# Altium schematic symbol library Modules.SchLib: 11 symbols
Pins are listed as number, name and electrical type; pins without a type are passive.

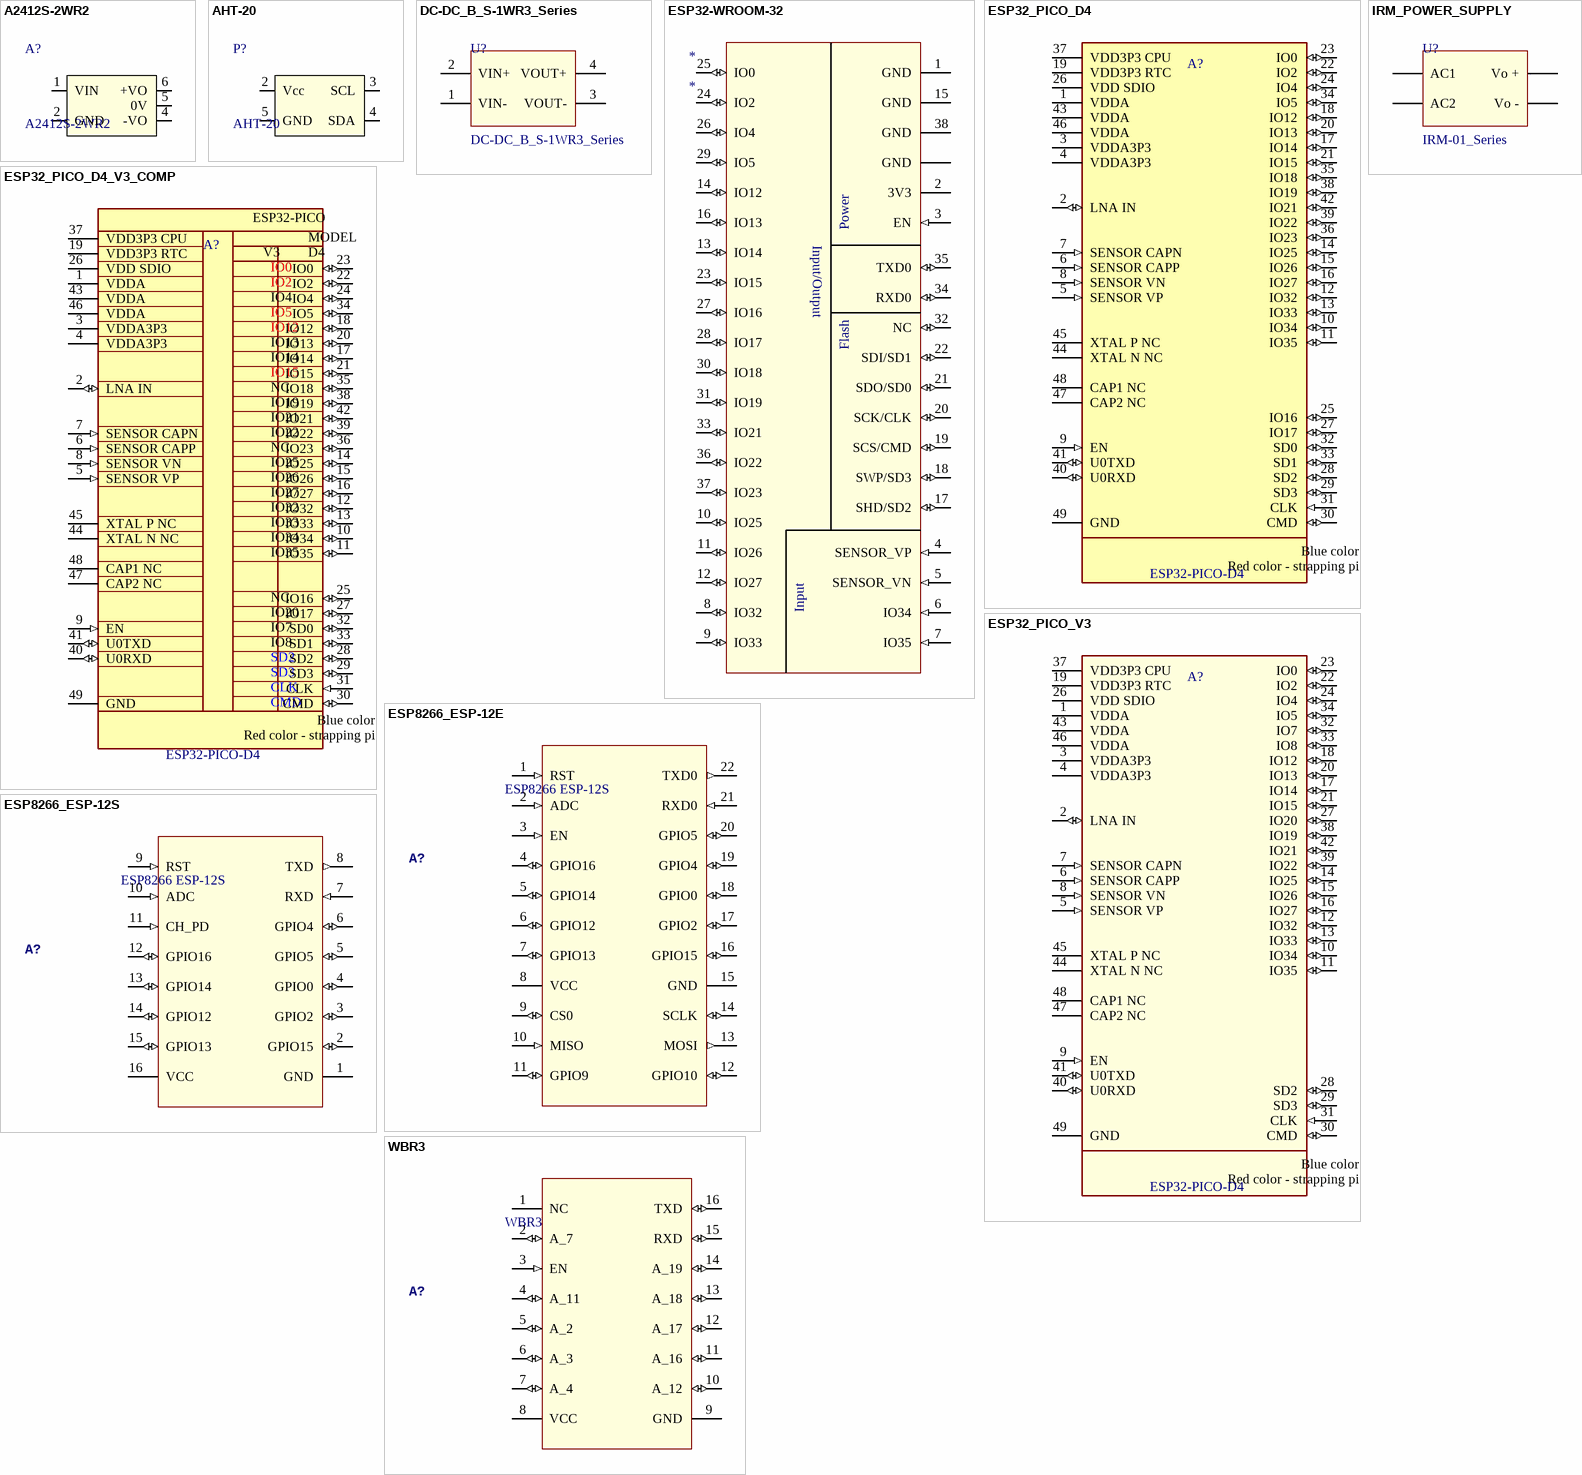
[diagram p0: symbols A2412S-2WR2 to WBR3]

## A2412S-2WR2
designator A?
Izolated DCDC; Supplier: BIG
footprint IZODCDC +/-
pins: 1 VIN, 2 GND, 4 -VO, 5 0V, 6 +VO

## AHT-20
designator P?
Temperature and humidity sensor; Supplier: BIG
footprint AHT-20
pins: 2 Vcc, 3 SCL, 4 SDA, 5 GND

## DC-DC_B_S-1WR3_Series
designator U?
MODULE, DC-DC, 1W
footprint IRM-01 Series (AC\DC Converter IRM-01 series MeanWell)
pins: 1 VIN-, 2 VIN+, 3 VOUT-, 4 VOUT+

## ESP32-WROOM-32
designator *
pins: 1 GND (power), 2 3V3 (power), 3 EN (in), 4 SENSOR_VP (in) "GPIO36, ADC1_CH0, RTC_GPIO0", 5 SENSOR_VN (in) "GPIO39, ADC1_CH3, RTC_GPIO3", 6 IO34 (in) "GPIO34, ADC1_CH6, RTC_GPIO4", 7 IO35 (in) "GPIO35, ADC1_CH7, RTC_GPIO", 8 IO32 (io) "GPIO32, XTAL_32K_P, ADC1_CH4, TOUCH9, RTC_GPIO9", 9 IO33 (io) "GPIO33, XTAL_32K_N, ADC1_CH5, TOUCH8, RTC_GPIO8", 10 IO25 (io) "GPIO25, DAC_1, ADC2_CH8, RTC_GPIO6, EMAC_RXD0", 11 IO26 (io) "GPIO26, DAC_2, ADC2_CH9, RTC_GPIO7, EMAC_RXD1", 12 IO27 (io) "GPIO27, ADC2_CH7, TOUCH7, RTC_GPIO17, EMAC_RX_DV", 13 IO14 (io) "GPIO14, ADC2_CH6, TOUCH6, RTC_GPIO16, MTMS, HSPICLK, HS2_CLK, SD_CLK, EMAC_TXD2", 14 IO12 (io) "GPIO12, ADC2_CH5, TOUCH5, RTC_GPIO15, MTDI, HSPIQ, HS2_DATA2, SD_DATA2, EMAC_TXD3", 15 GND (power), 16 IO13 (io) "GPIO13, ADC2_CH4, TOUCH4, RTC_GPIO14, MTCK, HSPID, HS2_DATA3, SD_DATA3, EMAC_RX_ER", 17 SHD/SD2 (io) "GPIO9, SD_DATA2, SPIHD, HS1_DATA2, U1RXD", 18 SWP/SD3 (io) "GPIO10, SD_DATA3, SPIWP, HS1_DATA3, U1TXD", 19 SCS/CMD (io) "GPIO11, SD_CMD, SPICS0, HS1_CMD, U1RTS", 20 SCK/CLK (io) "GPIO6, SD_CLK, SPICLK, HS1_CLK, U1CTS", 21 SDO/SD0 (io) "GPIO7, SD_DATA0, SPIQ, HS1_DATA0, U2RTS", 22 SDI/SD1 (io) "GPIO8, SD_DATA1, SPID, HS1_DATA1, U2CTS", 23 IO15 (io) "GPIO15, ADC2_CH3, TOUCH3, MTDO, HSPICS0, RTC_GPIO13, HS2_CMD, SD_CMD, EMAC_RXD3", 24 IO2 (io) "GPIO2, ADC2_CH2, TOUCH2, RTC_GPIO12, HSPIWP, HS2_DATA0, SD_DATA0", 25 IO0 (io) "GPIO0, ADC2_CH1, TOUCH1, RTC_GPIO11, CLK_OUT1, EMAC_TX_CLK", 26 IO4 (io) "GPIO4, ADC2_CH0, TOUCH0, RTC_GPIO10, HSPIHD, HS2_DATA1, SD_DATA1, EMAC_TX_ER", 27 IO16 (io) "GPIO16, HS1_DATA4, U2RXD, EMAC_CLK_OUT", 28 IO17 (io) "GPIO17, HS1_DATA5, U2TXD, EMAC_CLK_OUT_180", 29 IO5 (io) "GPIO5, VSPICS0, HS1_DATA6, EMAC_RX_CLK", 30 IO18 (io) "GPIO18, VSPICLK, HS1_DATA7", 31 IO19 (io) "GPIO19, VSPIQ, U0CTS, EMAC_TXD0", 32 NC (io), 33 IO21 (io) "GPIO21, VSPIHD, EMAC_TX_EN", 34 RXD0 (io) "GPIO3, U0RXD, CLK_OUT2", 35 TXD0 (io) "GPIO1, U0TXD, CLK_OUT3, EMAC_RXD2", 36 IO22 (io) "GPIO22, VSPIWP, U0RTS, EMAC_TXD1", 37 IO23 (io) "GPIO23, VSPID, HS1_STROBE", 38 GND (power), GND (power)
text: Power; Input/Output; Flash; Input

## ESP32_PICO_D4
designator A?, comment ESP32-PICO-D4
Bluetooth, WiFi 802.11b/g/n, Bluetooth v4.2 + EDR, Class 1, 2 and 3 Transceiver Module 2.4GHz ~ 2.5GHz  Surface Mount; Manufacturer: Expressif; ID: 3638; LCPN: C193707; Symbol: ESP32_PICO_D4; Type: Modules; MFPN: ESP32-PICO-D4; Value: ESP32-PICO-D4; Footprint Type: SMD; Supplier: LC; URL: https://lcsc.com/product-detail/Others_Espressif-Systems-ESP32-PICO-D4_C193707.html; Footprint: ESP32_PICO_D4
footprint ESP32_PICO_D4
pins: 1 VDDA (power), 2 LNA IN (io), 3 VDDA3P3 (power), 4 VDDA3P3 (power), 5 SENSOR VP (in), 6 SENSOR CAPP (in), 7 SENSOR CAPN (in), 8 SENSOR VN (in), 9 EN (in), 10 IO34 (io), 11 IO35 (io), 12 IO32 (io), 13 IO33 (io), 14 IO25 (io), 15 IO26 (io), 16 IO27 (io), 17 IO14 (io), 18 IO12 (io), 19 VDD3P3 RTC (power), 20 IO13 (io), 21 IO15 (io), 22 IO2 (io), 23 IO0 (io), 24 IO4 (io), 25 IO16 (io), 26 VDD SDIO (power), 27 IO17 (io), 28 SD2 (io), 29 SD3 (io), 30 CMD (io), 31 CLK (in), 32 SD0 (io), 33 SD1 (io), 34 IO5 (io), 35 IO18 (io), 36 IO23 (io), 37 VDD3P3 CPU (power), 38 IO19 (io), 39 IO22 (io), 40 U0RXD (io), 41 U0TXD (io), 42 IO21 (io), 43 VDDA (power), 44 XTAL N NC, 45 XTAL P NC, 46 VDDA (power), 47 CAP2 NC, 48 CAP1 NC, 49 GND (power)
text: Blue color - internal flash memory pins; Red color - strapping pins

## ESP32_PICO_D4_V3_COMP
designator A?, comment ESP32-PICO-D4
Bluetooth, WiFi 802.11b/g/n, Bluetooth v4.2 + EDR, Class 1, 2 and 3 Transceiver Module 2.4GHz ~ 2.5GHz  Surface Mount; Manufacturer: Expressif; ID: 3638; LCPN: C193707; Symbol: ESP32_PICO_D4; Type: Modules; MFPN: ESP32-PICO-D4; Value: ESP32-PICO-D4; Footprint Type: SMD; Supplier: LC; URL: https://lcsc.com/product-detail/Others_Espressif-Systems-ESP32-PICO-D4_C193707.html; Footprint: ESP32_PICO_D4
footprint ESP32_PICO_D4
pins: 1 VDDA (power), 2 LNA IN (io), 3 VDDA3P3 (power), 4 VDDA3P3 (power), 5 SENSOR VP (in), 6 SENSOR CAPP (in), 7 SENSOR CAPN (in), 8 SENSOR VN (in), 9 EN (in), 10 IO34 (io), 11 IO35 (io), 12 IO32 (io), 13 IO33 (io), 14 IO25 (io), 15 IO26 (io), 16 IO27 (io), 17 IO14 (io), 18 IO12 (io), 19 VDD3P3 RTC (power), 20 IO13 (io), 21 IO15 (io), 22 IO2 (io), 23 IO0 (io), 24 IO4 (io), 25 IO16 (io), 26 VDD SDIO (power), 27 IO17 (io), 28 SD2 (io), 29 SD3 (io), 30 CMD (io), 31 CLK (in), 32 SD0 (io), 33 SD1 (io), 34 IO5 (io), 35 IO18 (io), 36 IO23 (io), 37 VDD3P3 CPU (power), 38 IO19 (io), 39 IO22 (io), 40 U0RXD (io), 41 U0TXD (io), 42 IO21 (io), 43 VDDA (power), 44 XTAL N NC, 45 XTAL P NC, 46 VDDA (power), 47 CAP2 NC, 48 CAP1 NC, 49 GND (power)
text: ESP32-PICO; MODEL; V3; D4; NC; IO20; IO7; IO8; Blue color - internal flash memory pins; Red color - strapping pins

## ESP32_PICO_V3
designator A?, comment ESP32-PICO-D4
Bluetooth, WiFi 802.11b/g/n, Bluetooth v4.2 + EDR, Class 1, 2 and 3 Transceiver Module 2.4GHz ~ 2.5GHz  Surface Mount; Manufacturer: Expressif; ID: 3638; LCPN: C193707; Symbol: ESP32_PICO_D4; Type: Modules; MFPN: ESP32-PICO-D4; Value: ESP32-PICO-D4; Footprint Type: SMD; Supplier: LC; URL: https://lcsc.com/product-detail/Others_Espressif-Systems-ESP32-PICO-D4_C193707.html; Footprint: ESP32_PICO_D4
footprint ESP32_PICO_D4
pins: 1 VDDA (power), 2 LNA IN (io), 3 VDDA3P3 (power), 4 VDDA3P3 (power), 5 SENSOR VP (in), 6 SENSOR CAPP (in), 7 SENSOR CAPN (in), 8 SENSOR VN (in), 9 EN (in), 10 IO34 (io), 11 IO35 (io), 12 IO32 (io), 13 IO33 (io), 14 IO25 (io), 15 IO26 (io), 16 IO27 (io), 17 IO14 (io), 18 IO12 (io), 19 VDD3P3 RTC (power), 20 IO13 (io), 21 IO15 (io), 22 IO2 (io), 23 IO0 (io), 24 IO4 (io), 26 VDD SDIO (power), 27 IO20 (io), 28 SD2 (io), 29 SD3 (io), 30 CMD (io), 31 CLK (in), 32 IO7 (io), 33 IO8 (io), 34 IO5 (io), 37 VDD3P3 CPU (power), 38 IO19 (io), 39 IO22 (io), 40 U0RXD (io), 41 U0TXD (io), 42 IO21 (io), 43 VDDA (power), 44 XTAL N NC, 45 XTAL P NC, 46 VDDA (power), 47 CAP2 NC, 48 CAP1 NC, 49 GND (power)
text: Blue color - internal flash memory pins; Red color - strapping pins

## ESP8266_ESP-12E
designator A?, comment ESP8266 ESP-12S
WiFi module, core processor ESP8266 (AI-Thinker Co.,Ltd)
pins: 1 RST (in), 2 ADC (in), 3 EN (in) "CH_PD", 4 GPIO16 (io), 5 GPIO14 (io), 6 GPIO12 (io), 7 GPIO13 (io), 8 VCC (power), 9 CS0 (io) "GPIO13", 10 MISO (in) "GPIO13", 11 GPIO9 (io) "GPIO13", 12 GPIO10 (io) "GPIO5", 13 MOSI (out) "GPIO13", 14 SCLK (io) "GPIO13", 15 GND (power), 16 GPIO15 (io), 17 GPIO2 (io), 18 GPIO0 (io), 19 GPIO4 (io), 20 GPIO5 (io), 21 RXD0 (in) "RXD", 22 TXD0 (out) "TXD"

## ESP8266_ESP-12S
designator A?, comment ESP8266 ESP-12S
WiFi module, core processor ESP8266 (AI-Thinker Co.,Ltd)
footprint ESP8266-ESP12
pins: 1 GND (power), 2 GPIO15 (io), 3 GPIO2 (io), 4 GPIO0 (io), 5 GPIO5 (io), 6 GPIO4 (io), 7 RXD (in), 8 TXD (out), 9 RST (in), 10 ADC (in), 11 CH_PD (in), 12 GPIO16 (io), 13 GPIO14 (io), 14 GPIO12 (io), 15 GPIO13 (io), 16 VCC (power)

## IRM_POWER_SUPPLY
designator U?, comment IRM-01_Series
MODULE, AC-DC, 1W (MeanWell)
footprint IRM-01 Series (AC\DC Converter IRM-01 series MeanWell)
pins: AC1, AC2, VO+ Vo +, VO- Vo -

## WBR3
designator A?
Tuya WBR3 WiFi-BT
pins: 1 NC "RST", 2 A_7 (io) "ADC", 3 EN (in) "CH_PD", 4 A_11 (io) "GPIO16", 5 A_2 (io) "GPIO14", 6 A_3 (io) "GPIO12", 7 A_4 (io) "GPIO13", 8 VCC (power), 9 GND (power), 10 A_12 (io) "GPIO15", 11 A_16 (io) "GPIO2", 12 A_17 (io) "GPIO0", 13 A_18 (io) "GPIO4", 14 A_19 (io) "GPIO5", 15 RXD (io), 16 TXD (io)